# Altium footprint library 12V_IdealDiode_PowerSupply_v1.PcbLib: 6 footprints
Each footprint in its own frame and in the unit in brackets; x right, y up, seen from the top. Pads: shape width x height; smd on the part's side, far side on the other; paste and mask are expansions set on the pad; w line width, h text height; cw(c..) or ccw(c..) is an arc to the next point about the centre after c.
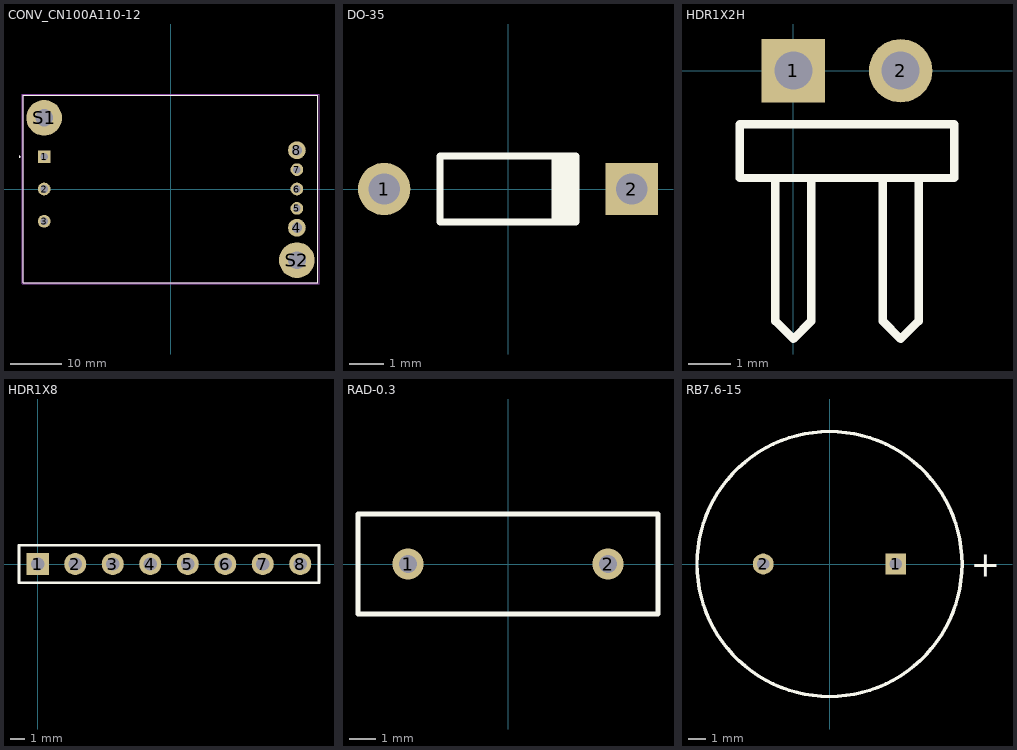
[diagram p0: the footprints below, top view; thin cyan lines are the x and y axes]

## CONV_CN100A110-12 [mm]
pads (10):
  rect 2.5x2.5 hole 1.5: 1(-24.85,6.35)
  round 2.5 hole 1.5: 2(-24.85,0) 3(-24.85,-6.35) 5(24.85,-3.81) 6(24.85,0) 7(24.85,3.81)
  round 3.5 hole 2: 4(24.85,-7.62) 8(24.85,7.62)
  round 7 hole 3.5: S1(-24.85,14) S2(24.85,-14)
Top Overlay:
  circle w0.2: c-29.7,6.35 r0.1
  lines w0.127: -28.95,-18.4 -28.95,18.4 ; -28.95,-18.4 28.95,-18.4 ; -28.95,-18.4 -28.95,18.4 ; -28.95,-18.4 28.95,-18.4 ; -28.95,18.4 28.95,18.4 ; -28.95,18.4 28.95,18.4 ; 28.95,-18.4 28.95,18.4 ; 28.95,-18.4 28.95,18.4
Mechanical 13:
  circle w0.2: c-29.7,6.35 r0.1
  lines w0.127: -28.95,-18.4 -28.95,18.4 28.95,18.4 28.95,-18.4 -28.95,-18.4
Mechanical 15:
  lines w0.05: -29.2,-18.65 29.2,-18.65 29.2,18.65 -29.2,18.65 -29.2,-18.65
3D body "step_temp.STEP": height 13.2, standoff -5.5, extent -28.95,-18.4 28.95,18.4

## DO-35 [mm]
pads (2):
  round 1.5 hole 0.9: 1(-3.55,0)
  rect 1.5x1.5 hole 0.9: 2(3.55,0)
Top Overlay:
  rectangle: 1.25,-0.95 2.05,0.95
  lines w0.2: 1.95,-0.95 -1.95,-0.95 -1.95,0.95 1.95,0.95

## HDR1X2H [mm]
pads (2):
  rect 1.5x1.5 hole 0.9: 1(0,0)
  round 1.5 hole 0.9: 2(2.54,0)
Top Overlay:
  lines w0.2: -0.423,-2.54 -0.423,-5.927 0,-6.35 0.423,-5.927 0.423,-2.54 ; 2.117,-2.54 2.117,-5.927 2.54,-6.35 2.963,-5.927 2.963,-2.54 ; -1.27,-2.54 -1.27,-1.27 3.81,-1.27 3.81,-2.54 -1.27,-2.54

## HDR1X8 [mm]
pads (8):
  rect 1.5x1.5 hole 0.9: 1(0,0)
  round 1.5 hole 0.9: 2(2.54,0) 3(5.08,0) 4(7.62,0) 5(10.16,0) 6(12.7,0) 7(15.24,0) 8(17.78,0)
Top Overlay:
  lines w0.2: -1.27,-1.27 19.05,-1.27 19.05,1.27 -1.27,1.27 -1.27,-1.27

## RAD-0.3 [mm]
pads (2):
  round 1.2 hole 0.7: 1(-3.81,0) 2(3.81,0)
Top Overlay:
  lines w0.2: -5.715,-1.905 5.715,-1.905 5.715,1.905 -5.715,1.905 -5.715,-1.905

## RB7.6-15 [mm]
pads (2):
  rect 1.2x1.2 hole 0.7: 1(3.81,0)
  round 1.2 hole 0.7: 2(-3.81,0)
Top Overlay:
  circle w0.2: c0,0 r7.62
  text "+" at 8.132,-0.737 h1.5